# Altium footprint library MasterLibrary.PcbLib: 17 footprints (part 1 of 2)
Each footprint in its own frame and in the unit in brackets; x right, y up, seen from the top. Pads: shape width x height; smd on the part's side, far side on the other; paste and mask are expansions set on the pad; w line width, h text height; cw(c..) or ccw(c..) is an arc to the next point about the centre after c.
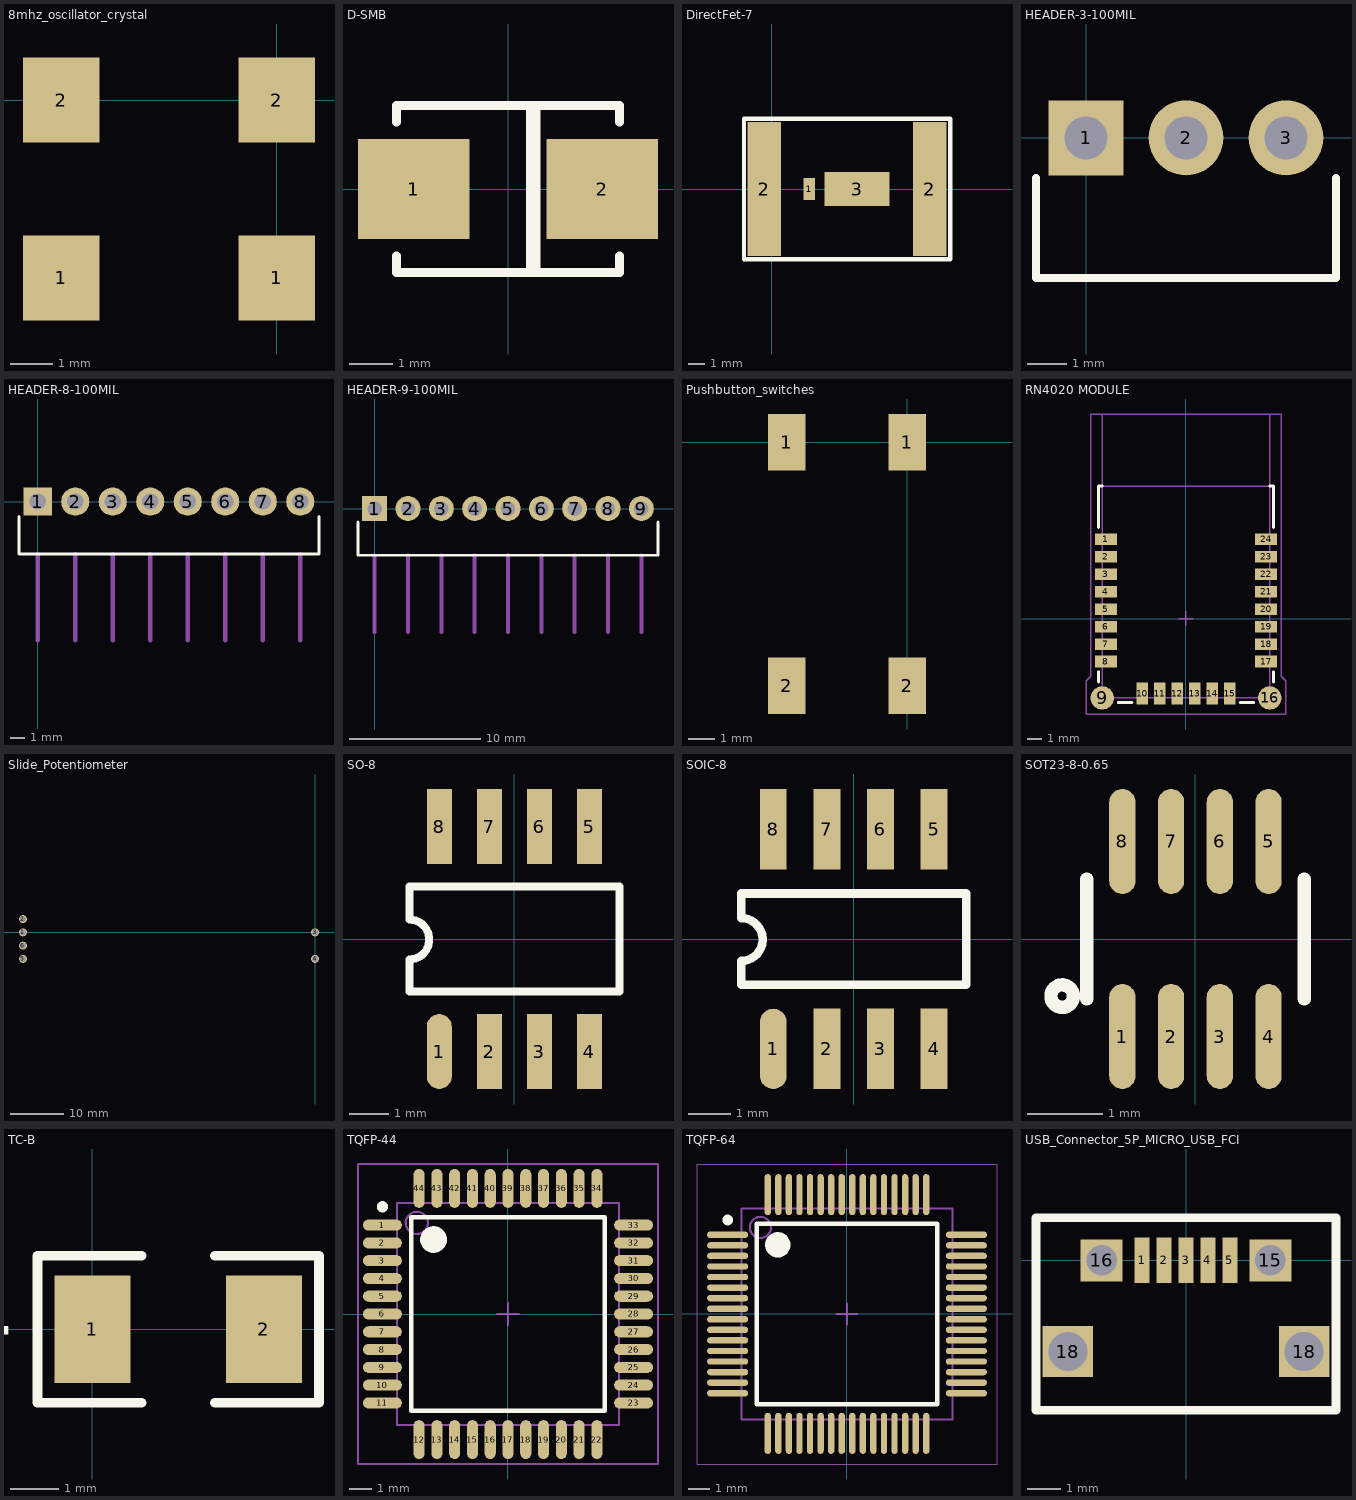
[diagram p0: the footprints below, top view; thin cyan lines are the x and y axes]

## 8mhz_oscillator_crystal [mm] "Tusonix CB3LV"
pads (4):
  rect 1.8x2 smd: 1(-5.08,-4.2) 1(0,-4.2) 2(-5.08,0) 2(0,0)

## D-SMB [mm] "DIODE"
pads (2):
  rect 2.54x2.286 smd: 1(-2.15,0) 2(2.15,0)
Top Overlay:
  lines w0.203: -2.54,-1.524 -2.54,-1.905 2.54,-1.905 2.54,-1.524 ; -2.54,1.524 -2.54,1.905 2.54,1.905 2.54,1.524 ; 0.508,-1.905 0.508,1.905 ; 0.635,-1.905 0.635,1.905

## DirectFet-7 [mm]
pads (4):
  rect 0.7x1.3 smd: 1(2.25,0)
  rect 2x8 smd: 2(-0.45,0) 2(9.45,0)
  rect 3.9x2 smd: 3(5.1,0)
Top Overlay:
  lines w0.254: -1.651,-4.191 -1.651,4.191 10.668,4.191 10.668,-4.191 -1.651,-4.191
3D body "DIRECTFET-7.STEP": height 0.65, standoff 0, extent 0,-3.294 9.1,3.656

## HEADER-3-100MIL [mil] "100 mil Pitch"
pads (3):
  rect 75x75 hole 43: 1(0,0)
  round 75 hole 43: 2(100,0) 3(200,0)
Top Overlay:
  lines w8: -50,-40 -50,-140 250,-140 250,-40

## HEADER-8-100MIL [mil] "100 Mil Pitch"
pads (8):
  rect 75x75 hole 43: 1(0,0)
  round 75 hole 43: 2(100,0) 3(200,0) 4(300,0) 5(400,0) 6(500,0) 7(600,0) 8(700,0)
Top Overlay:
  lines w8: -50,-40 -50,-140 750,-140 750,-40
Mechanical 15:
  lines w12: 0,-370 0,-140 ; 100,-370 100,-140 ; 200,-370 200,-140 ; 300,-370 300,-140 ; 400,-370 400,-140 ; 500,-370 500,-140 ; 600,-370 600,-140 ; 700,-370 700,-140

## HEADER-9-100MIL [mil] "100 Mil Pitch"
pads (9):
  rect 75x75 hole 43: 1(0,0)
  round 75 hole 43: 2(100,0) 3(200,0) 4(300,0) 5(400,0) 6(500,0) 7(600,0) 8(700,0) 9(800,0)
Top Overlay:
  lines w8: -50,-40 -50,-140 850,-140 850,-40
Mechanical 15:
  lines w12: 0,-370 0,-140 ; 100,-370 100,-140 ; 200,-370 200,-140 ; 300,-370 300,-140 ; 400,-370 400,-140 ; 500,-370 500,-140 ; 600,-370 600,-140 ; 700,-370 700,-140 ; 800,-370 800,-140

## Pushbutton_switches [mm]
pads (4):
  rect 1.4x2.1 smd: 1(-4.5,0) 1(0,0) 2(-4.5,-9.1) 2(0,-9.1)
3D body "TS-1170S-WP.stp": height 7, standoff 0, extent -5.409,-8.572 1.091,-0.572

## RN4020 MODULE [mm] "24 Pins"
pads (24):
  rect 1.5x0.8 smd: 1(-5.5,5.45) 2(-5.5,4.25) 3(-5.5,3.05) 4(-5.5,1.85) 5(-5.5,0.65) 6(-5.5,-0.55) 7(-5.5,-1.75) 8(-5.5,-2.95) 17(5.5,-2.95) 18(5.5,-1.75) 19(5.5,-0.55) 20(5.5,0.65) 21(5.5,1.85) 22(5.5,3.05) 23(5.5,4.25) 24(5.5,5.45)
  round 1.6 smd: 9(-5.75,-5.45) 16(5.75,-5.45)
  rect 0.8x1.5 smd: 10(-3,-5.15) 11(-1.8,-5.15) 12(-0.6,-5.15) 13(0.6,-5.15) 14(1.8,-5.15) 15(3,-5.15)
Top Overlay:
  lines w0.2: -6,-4.35 -6,-3.65 ; -6,6.25 -6,9.1 -5.75,9.1 ; -4.65,-5.75 -3.7,-5.75 ; 3.7,-5.75 4.65,-5.75 ; 5.75,9.1 6,9.1 6,6.25 ; 6,-4.35 6,-3.65
Mechanical 11:
  lines w0.1: -5.75,9.1 5.75,9.1 ; -5.75,-5.45 5.75,-5.45 5.75,14.05 -5.75,14.05 -5.75,-5.45
Mechanical 15:
  lines w0.1: -0.5,0 0.5,0 ; 0,-0.5 0,0.5 ; -6.85,-6.55 6.85,-6.55 6.85,-4.25 6.55,-3.95 6.55,14.05 -6.55,14.05 -6.55,-3.95 -6.85,-4.25 -6.85,-6.55
3D body: height 2.3, standoff 0.8, extent -4.95,-4.95 4.95,9.55
3D body: height 0.8, standoff 0, extent -5.75,-5.45 5.75,14.05

## Slide_Potentiometer [mm] "Slide_Potentiometer_10Kohms_45mm_Bourns"
pads (6):
  round 1.5 hole 1.1: 1(-55,0) 2(-55,2.5) 3(0,0) 4(0,-5) 5(-55,-5) 6(-55,-2.5)

## SO-8 [mil]
pads (8):
  oval 25x75 smd: 1(-75,-112.5)
  rect 25x75 smd: 2(-25,-112.5) 3(25,-112.5) 4(75,-112.5) 5(75,112.5) 6(25,112.5) 7(-25,112.5) 8(-75,112.5)
Top Overlay:
  lines w8: -105,-52.5 -105,-20.5 ccw(c-105,-0.5) -105,19.5 -105,52.5 105,52.5 105,-52.5 -105,-52.5

## SOIC-8 [mil] "8 LEAD SOIC"
pads (8):
  oval 25x75 smd: 1(-75,-102.5)
  rect 25x75 smd: 2(-25,-102.5) 3(25,-102.5) 4(75,-102.5) 5(75,102.5) 6(25,102.5) 7(-25,102.5) 8(-75,102.5)
Top Overlay:
  lines w8: -105,-42.5 105,-42.5 105,42.5 -105,42.5 -105,19.5 cw(c-105,-0.5) -105,-20.5 -105,-42.5
3D body "SOIC-8.STEP": height 68.9, standoff 0, extent -96.46,-118.11 96.45,118.11

## SOT23-8-0.65 [mm]
pads (8):
  oval 0.35x1.4 smd: 1(-0.975,-1.3) 2(-0.325,-1.3) 3(0.325,-1.3) 4(0.975,-1.3) 5(0.975,1.3) 6(0.325,1.3) 7(-0.325,1.3) 8(-0.975,1.3)
Top Overlay:
  circle w0.178: c-1.778,-0.762 r0.15
  lines w0.178: -1.45,-0.8 -1.45,0.8 ; 1.45,-0.8 1.45,0.8
3D body "User Library-sot238.step": height 1.2, standoff 0, extent -1.47,-1.4 1.47,1.4

## TC-B [mil]
pads (2):
  rect 62x88 smd: 1(0,0) 2(140,0)
Top Overlay:
  lines w8: 40,-60 -45,-60 -45,60 40,60 ; 100,-60 185,-60 185,60 100,60
  text "+" at -60,25 h60

## TQFP-44 [mm] "44-Pin Thin Quad Flat Pack 0.8 mm Pitch, IPC Medium Density"
height 1.2
pads (44):
  oval 1.75x0.5 smd: 1(-5.65,4) 2(-5.65,3.2) 3(-5.65,2.4) 4(-5.65,1.6) 5(-5.65,0.8) 6(-5.65,0) 7(-5.65,-0.8) 8(-5.65,-1.6) 9(-5.65,-2.4) 10(-5.65,-3.2) 11(-5.65,-4) 23(5.65,-4) 24(5.65,-3.2) 25(5.65,-2.4) 26(5.65,-1.6) 27(5.65,-0.8) 28(5.65,0) 29(5.65,0.8) 30(5.65,1.6) 31(5.65,2.4) 32(5.65,3.2) 33(5.65,4)
  oval 0.5x1.75 smd: 12(-4,-5.65) 13(-3.2,-5.65) 14(-2.4,-5.65) 15(-1.6,-5.65) 16(-0.8,-5.65) 17(0,-5.65) 18(0.8,-5.65) 19(1.6,-5.65) 20(2.4,-5.65) 21(3.2,-5.65) 22(4,-5.65) 34(4,5.65) 35(3.2,5.65) 36(2.4,5.65) 37(1.6,5.65) 38(0.8,5.65) 39(0,5.65) 40(-0.8,5.65) 41(-1.6,5.65) 42(-2.4,5.65) 43(-3.2,5.65) 44(-4,5.65)
Top Overlay:
  circle w0.25: c-5.65,4.825 r0.125
  circle w0.6: c-3.35,3.35 r0.3
  lines w0.2: -4.35,-4.35 -4.35,4.35 4.35,4.35 4.35,-4.35 -4.35,-4.35
Mechanical 13:
  circle w0.1: c-4.1,4.1 r0.5
  lines w0.1: -5,-5 -5,5 5,5 5,-5 -5,-5
Mechanical 15:
  lines w0.1: -0.5,0 0.5,0 ; 0,-0.5 0,0.5 ; -6.75,-6.75 -6.75,6.75 6.75,6.75 6.75,-6.75 -6.75,-6.75
3D body: height 1.2, standoff 0, extent -5,-5 5,5

## TQFP-64 [mm] "TQFP, 64-Leads, Body 10x10mm, Pitch 0.5mm"
height 1.2
pads (64):
  oval 1.95x0.3 smd: 1(-5.65,3.75) 2(-5.65,3.25) 3(-5.65,2.75) 4(-5.65,2.25) 5(-5.65,1.75) 6(-5.65,1.25) 7(-5.65,0.75) 8(-5.65,0.25) 9(-5.65,-0.25) 10(-5.65,-0.75) 11(-5.65,-1.25) 12(-5.65,-1.75) 13(-5.65,-2.25) 14(-5.65,-2.75) 15(-5.65,-3.25) 16(-5.65,-3.75) 33(5.65,-3.75) 34(5.65,-3.25) 35(5.65,-2.75) 36(5.65,-2.25) 37(5.65,-1.75) 38(5.65,-1.25) 39(5.65,-0.75) 40(5.65,-0.25) 41(5.65,0.25) 42(5.65,0.75) 43(5.65,1.25) 44(5.65,1.75) 45(5.65,2.25) 46(5.65,2.75) 47(5.65,3.25) 48(5.65,3.75)
  oval 0.3x1.95 smd: 17(-3.75,-5.65) 18(-3.25,-5.65) 19(-2.75,-5.65) 20(-2.25,-5.65) 21(-1.75,-5.65) 22(-1.25,-5.65) 23(-0.75,-5.65) 24(-0.25,-5.65) 25(0.25,-5.65) 26(0.75,-5.65) 27(1.25,-5.65) 28(1.75,-5.65) 29(2.25,-5.65) 30(2.75,-5.65) 31(3.25,-5.65) 32(3.75,-5.65) 49(3.75,5.65) 50(3.25,5.65) 51(2.75,5.65) 52(2.25,5.65) 53(1.75,5.65) 54(1.25,5.65) 55(0.75,5.65) 56(0.25,5.65) 57(-0.25,5.65) 58(-0.75,5.65) 59(-1.25,5.65) 60(-1.75,5.65) 61(-2.25,5.65) 62(-2.75,5.65) 63(-3.25,5.65) 64(-3.75,5.65)
Top Overlay:
  circle w0.25: c-5.65,4.45 r0.125
  circle w0.6: c-3.275,3.275 r0.3
  lines w0.2: -4.275,-4.275 -4.275,4.275 4.275,4.275 4.275,-4.275 -4.275,-4.275
Mechanical 13:
  circle w0.1: c-4.1,4.1 r0.5
  lines w0.1: -5,-5 -5,5 5,5 5,-5 -5,-5
Mechanical 15:
  lines w0.05: -7.1,-7.1 -7.1,7.1 7.1,7.1 7.1,-7.1 -7.1,-7.1
  lines w0.1: -0.5,0 0.5,0 ; 0,-0.5 0,0.5
3D body: height 1.2, standoff 0.05, extent -5,-5 5,5

## USB_Connector_5P_MICRO_USB_FCI [mm] "USB_Connector_5P_MICRO_USB_FCI_TypeB"
pads (9):
  rect 0.45x1.35 smd: 1(-1.3,0) 2(-0.65,0) 3(0,0) 4(0.65,0) 5(1.3,0)
  rect 1.25x1.25 hole 0.9: 15(2.5,0) 16(-2.5,0)
  rect 1.5x1.5 hole 1.15: 18(-3.5,-2.7) 18(3.5,-2.7)
Top Overlay:
  lines w0.254: -4.445,-4.445 -4.445,1.27 4.445,1.27 4.445,-4.445 -4.445,-4.445
3D body "UsbMicro-10118194.step": height 2.73, standoff -0.55, extent -4.025,-5.334 4.025,0.246